# EAGLE library part GUMSTIX (library paparazzi3)
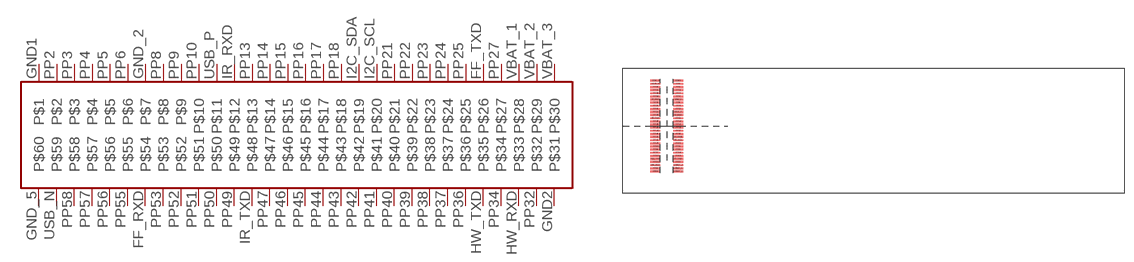
[diagram p19: symbol with the pads of GUMSTIX; footprint GUMSTIX]

Designator prefix -

## GUMSTIX  [GUMSTIX]
FF_RXD  P$54
FF_TXD  P$26
GND1  P$1
GND2  P$31
GND_2  P$7
GND_5  P$60
HW_RXD  P$33
HW_TXD  P$35
I2C_SCL  P$20
I2C_SDA  P$19
IR_RXD  P$12
IR_TXD  P$48
PP2  P$2
PP3  P$3
PP4  P$4
PP5  P$5
PP6  P$6
PP8  P$8
PP9  P$9
PP10  P$10
PP13  P$13
PP14  P$14
PP15  P$15
PP16  P$16
PP17  P$17
PP18  P$18
PP21  P$21
PP22  P$22
PP23  P$23
PP24  P$24
PP25  P$25
PP27  P$27
PP32  P$32
PP34  P$34
PP36  P$36
PP37  P$37
PP38  P$38
PP39  P$39
PP40  P$40
PP41  P$41
PP42  P$42
PP43  P$43
PP44  P$44
PP45  P$45
PP46  P$46
PP47  P$47
PP49  P$49
PP50  P$50
PP51  P$51
PP52  P$52
PP53  P$53
PP55  P$55
PP56  P$56
PP57  P$57
PP58  P$58
USB_N  P$59
USB_P  P$11
VBAT_1  P$28
VBAT_2  P$29
VBAT_3  P$30

## Footprint GUMSTIX (pad centres in mm)
smd 1.6 x 0.3: FF_RXD 5.2,15; FF_TXD 8.8,5.5; GND1 8.8,18; GND2 5.2,3.5; GND_2 8.8,15; GND_5 5.2,18; HW_RXD 5.2,4.5; HW_TXD 5.2,5.5; I2C_SCL 8.8,8.5; I2C_SDA 8.8,9; IR_RXD 8.8,12.5; IR_TXD 5.2,12; PP2 8.8,17.5; PP3 8.8,17; PP4 8.8,16.5; PP5 8.8,16; PP6 8.8,15.5; PP8 8.8,14.5; PP9 8.8,14; PP10 8.8,13.5; PP13 8.8,12; PP14 8.8,11.5; PP15 8.8,11; PP16 8.8,10.5; PP17 8.8,10; PP18 8.8,9.5; PP21 8.8,8; PP22 8.8,7.5; PP23 8.8,7; PP24 8.8,6.5; PP25 8.8,6; PP27 8.8,5; PP32 5.2,4; PP34 5.2,5; PP36 5.2,6; PP37 5.2,6.5; PP38 5.2,7; PP39 5.2,7.5; PP40 5.2,8; PP41 5.2,8.5; PP42 5.2,9; PP43 5.2,9.5; PP44 5.2,10; PP45 5.2,10.5; PP46 5.2,11; PP47 5.2,11.5; PP49 5.2,12.5; PP50 5.2,13; PP51 5.2,13.5; PP52 5.2,14; PP53 5.2,14.5; PP55 5.2,15.5; PP56 5.2,16; PP57 5.2,16.5; PP58 5.2,17; USB_N 5.2,17.5; USB_P 8.8,13; VBAT_1 8.8,4.5; VBAT_2 8.8,4; VBAT_3 8.8,3.5